# EAGLE library part 416131160812 (library Eagle_SWITCHES (rev18c))
WS-DISV 1.27mm small compact SMD flat actuator with top tape Specification MATERIAL PROPERTIES: Cover Material PPA Cover Flammability Rating UL94 V-0 Cover Color Brown Base Material PPA Base Flammability Rating UL94 V-0 Base Color Brown Actuator Material PA46 Actuator Flammability Rating UL94 V-0 Actuator Color White Contact Plating Gold Terminal Plating Gold ELECTRICAL PROPERTIES: Rated Current Switching 25 mA Rated Current Non-Switching 100 mA Contact Resistance Initial 100 mΩ Contact Resistance After Life Test 200 mΩ Insulation Resistance 100 MΩ Withstanding Voltage 300 V (AC) MECHANICAL PROPERTIES: Operation Force 500 g Electrical Life 1000 Cycles Mechanical Life min. 2000 cycles Actuator Type Flat Type Switch Position Off <http://katalog.we-online.de/media/images/v2/Family_WS-DISV_SMD_FLAT_ACTUATOR_4161311608xx_4C.jpg> Details see: http://katalog.we-online.de/en/em/DISV_1_27_SMALL_COMPACT_SMD_FLAT_ACTUATOR/416131160812 2015 (C) Wurth Elektronik
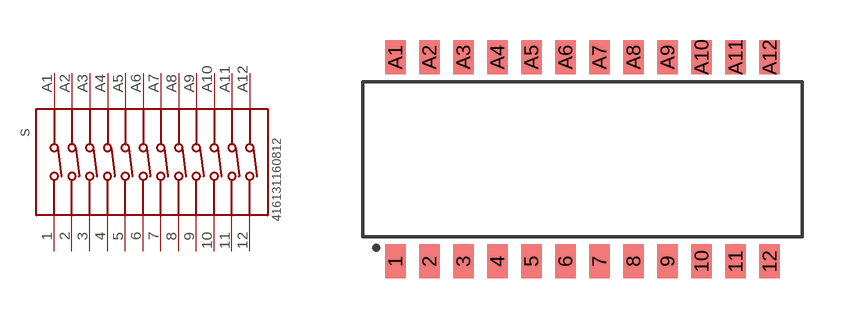
[diagram p131: symbol with the pads of 416131160812; footprint 416131160812]

Designator prefix S

## 416131160812  [416131160812]
1  1  pas
2  2  pas
3  3  pas
4  4  pas
5  5  pas
6  6  pas
7  7  pas
8  8  pas
9  9  pas
10  10  pas
11  11  pas
12  12  pas
A1  A1  pas
A2  A2  pas
A3  A3  pas
A4  A4  pas
A5  A5  pas
A6  A6  pas
A7  A7  pas
A8  A8  pas
A9  A9  pas
A10  A10  pas
A11  A11  pas
A12  A12  pas

## Footprint 416131160812 (pad centres in mm)
WS-DISV SMD version flat actuator with top tape sealed 416131160812
smd 0.76 x 1.27: 1 -6.985,-3.81; 2 -5.715,-3.81; 3 -4.445,-3.81; 4 -3.175,-3.81; 5 -1.905,-3.81; 6 -0.635,-3.81; 7 0.635,-3.81; 8 1.905,-3.81; 9 3.175,-3.81; 10 4.445,-3.81; 11 5.715,-3.81; 12 6.985,-3.81; A1 -6.985,3.81; A2 -5.715,3.81; A3 -4.445,3.81; A4 -3.175,3.81; A5 -1.905,3.81; A6 -0.635,3.81; A7 0.635,3.81; A8 1.905,3.81; A9 3.175,3.81; A10 4.445,3.81; A11 5.715,3.81; A12 6.985,3.81